# Altium footprint library ds1021_1x10sf11_b.PcbLib: 1 footprints
Each footprint in its own frame and in the unit in brackets; x right, y up, seen from the top. Pads: shape width x height; smd on the part's side, far side on the other; paste and mask are expansions set on the pad; w line width, h text height; cw(c..) or ccw(c..) is an arc to the next point about the centre after c.
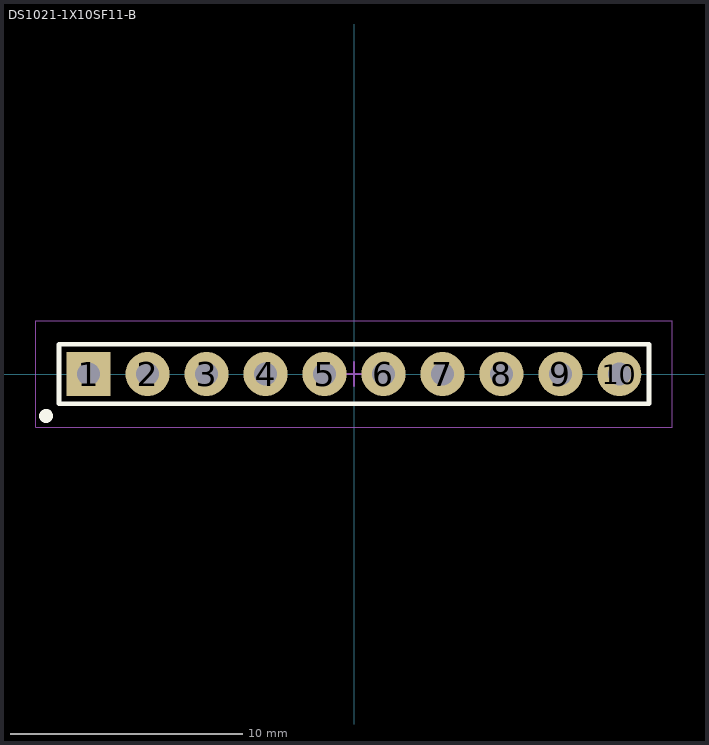
[diagram p0: the footprint, top view; thin cyan lines are the x and y axes]

## DS1021-1X10SF11-B [mm] "PLS 10 Pins 2,54mm Plug Header V/T Type"
height 8.6
pads (10):
  rect 1.9x1.9 hole 1: 1(-11.43,0)
  round 1.9 hole 1: 2(-8.89,0) 3(-6.35,0) 4(-3.81,0) 5(-1.27,0) 6(1.27,0) 7(3.81,0) 8(6.35,0) 9(8.89,0) 10(11.43,0)
Top Overlay:
  circle w0.6: c-13.26,-1.8 r0.001
  lines w0.2: -12.705,-1.275 12.705,-1.275 12.705,1.275 -12.705,1.275 -12.705,-1.275
Top Comment:
  text ".Comment" at 1,2.5 h1.2
Top Designator:
  text ".Designator" at -0.4,2.5 h1.2
Top Component Outline:
  circle w0.35: c-12,-0.6 r0.15
  lines w0.1: -12.705,-1.275 -12.705,1.275 12.705,1.275 12.705,-1.275 -12.705,-1.275
Top Courtyard (Mech15):
  lines w0.05: -13.705,-2.3 13.705,-2.3 13.705,2.3 -13.705,2.3 -13.705,-2.3
  lines w0.1: -0.5,0 0.5,0 ; 0,-0.5 0,0.5
3D body "User Library-1x10 TH Pitch 2_54mm.STEP": height 9.2, standoff -3.5, extent -12.7,-1.27 12.7,1.27